# Altium schematic symbol library BSPD_Library.SchLib: 1 symbol
Pins are listed as number, name and electrical type; pins without a type are passive.

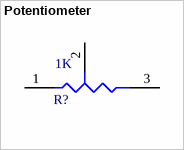
[diagram p0: symbol Potentiometer]

## Potentiometer
designator R?  value 1K
Tapped Resistor; Sim Note: Enter the Resistance value and the set point into parameter fields.; Set Position: 0.5; Published: 24-Mar-1999; LatestRevisionDate: 17-Jul-2002; LatestRevisionNote: Re-released for DXP Platform.; PackageReference: VR3; Publisher: Altium Limited; PackageDescription: Variable Resistor, Thru-Hole; 3 Leads
simulation model POT (Potentiometer)
signal-integrity model Res Tap
footprint Potentiometers
pins: 1 A, 2 TAP, 3 B